# EAGLE library part TSW-S-43 (library con-samtec-tsw)
HEADER
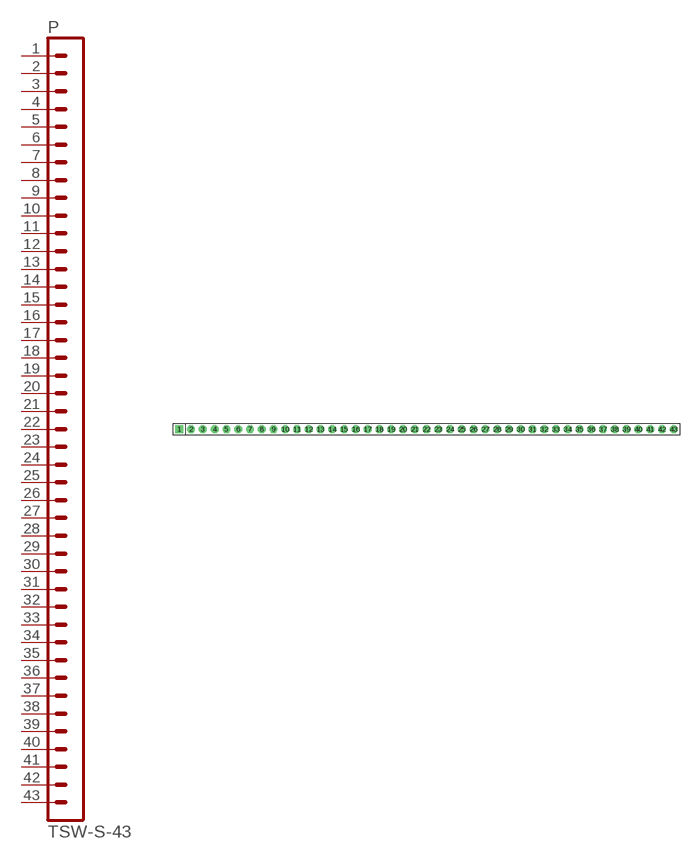
[diagram p37: symbol with the pads of TSW-S-43; footprint TSW-S-43]

Designator prefix P

## TSW-S-43  [TSW-S-43]
1  1  pas
2  2  pas
3  3  pas
4  4  pas
5  5  pas
6  6  pas
7  7  pas
8  8  pas
9  9  pas
10  10  pas
11  11  pas
12  12  pas
13  13  pas
14  14  pas
15  15  pas
16  16  pas
17  17  pas
18  18  pas
19  19  pas
20  20  pas
21  21  pas
22  22  pas
23  23  pas
24  24  pas
25  25  pas
26  26  pas
27  27  pas
28  28  pas
29  29  pas
30  30  pas
31  31  pas
32  32  pas
33  33  pas
34  34  pas
35  35  pas
36  36  pas
37  37  pas
38  38  pas
39  39  pas
40  40  pas
41  41  pas
42  42  pas
43  43  pas

## Footprint TSW-S-43 (pad centres in mm)
HEADER
drill 0.914 pad 1.676 square: 1 -53.34,0
drill 0.914 pad 1.676 octagon: 2 -50.8,0; 3 -48.26,0; 4 -45.72,0; 5 -43.18,0; 6 -40.64,0; 7 -38.1,0; 8 -35.56,0; 9 -33.02,0; 10 -30.48,0; 11 -27.94,0; 12 -25.4,0; 13 -22.86,0; 14 -20.32,0; 15 -17.78,0; 16 -15.24,0; 17 -12.7,0; 18 -10.16,0; 19 -7.62,0; 20 -5.08,0; 21 -2.54,0; 22 0,0; 23 2.54,0; 24 5.08,0; 25 7.62,0; 26 10.16,0; 27 12.7,0; 28 15.24,0; 29 17.78,0; 30 20.32,0; 31 22.86,0; 32 25.4,0; 33 27.94,0; 34 30.48,0; 35 33.02,0; 36 35.56,0; 37 38.1,0; 38 40.64,0; 39 43.18,0; 40 45.72,0; 41 48.26,0; 42 50.8,0; 43 53.34,0